# Altium footprint library BNO080_Breakout.PcbLib: 1 footprints
Each footprint in its own frame and in the unit in brackets; x right, y up, seen from the top. Pads: shape width x height; smd on the part's side, far side on the other; paste and mask are expansions set on the pad; w line width, h text height; cw(c..) or ccw(c..) is an arc to the next point about the centre after c.
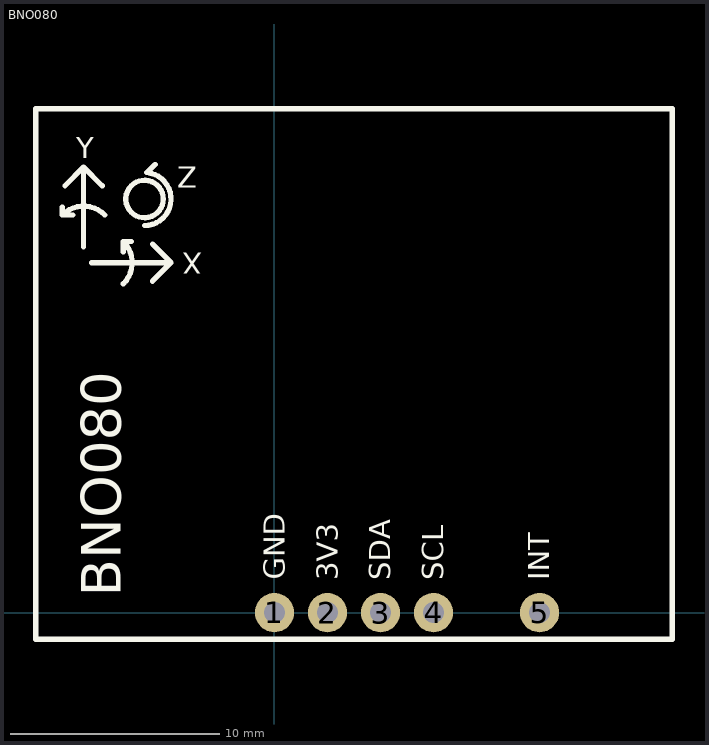
[diagram p0: the footprint, top view; thin cyan lines are the x and y axes]

## BNO080 [mil]
pads (5):
  round 74 hole 40: 1(0,0) 2(100,0) 3(200,0) 4(300,0) 5(500,0)
Top Overlay:
  circle w10: c-245,780 r35.36
  lines w10: -400,765 -400,750 ; -395,805 -360,840 ; -360,690 -360,840 ; -345,660 -195,660 ; -320,750 ccw(c-360,710) -400,750 ; -285,620 ccw(c-325,660) -285,700 ; -270,700 -285,700 ; -245,730 ccw(c-245,780) -240.85,829.83 ; -230,695 -195,660 ; -400,750 -380,750 -400,750 ; -400,750 -400,750 ; -360,840 -325,805 -360,840 ; -285,700 -285,680 -285,700 ; -285,700 -285,700 ; -240.85,829.83 -240.17,829.83 ; -240.85,829.83 -240.17,829.83 ; -240.17,829.83 -225,845 -240.17,829.83 ; -195,660 -230,625 -195,660 ; -450,-50 -450,950 750,950 750,-50 0,-50 -450,-50
  text "GND" at 19.08,61.89 h40
  text "3V3" at 118.89,61.5 h40
  text "SDA" at 218.69,61.5 h40
  text "SCL" at 318.5,61.5 h40
  text "INT" at 518.5,61.5 h40
  text "X" at -136.5,678.5 h40
  text "Y" at -373.5,856.5 h40
  text "Z" at -183.5,801.5 h40
  text "BNO080" at -290,30 h75